# Altium footprint library LYDZ.PcbLib: 231 footprints (part 10 of 15)
Each footprint in its own frame and in the unit in brackets; x right, y up, seen from the top. Pads: shape width x height; smd on the part's side, far side on the other; paste and mask are expansions set on the pad; w line width, h text height; cw(c..) or ccw(c..) is an arc to the next point about the centre after c.
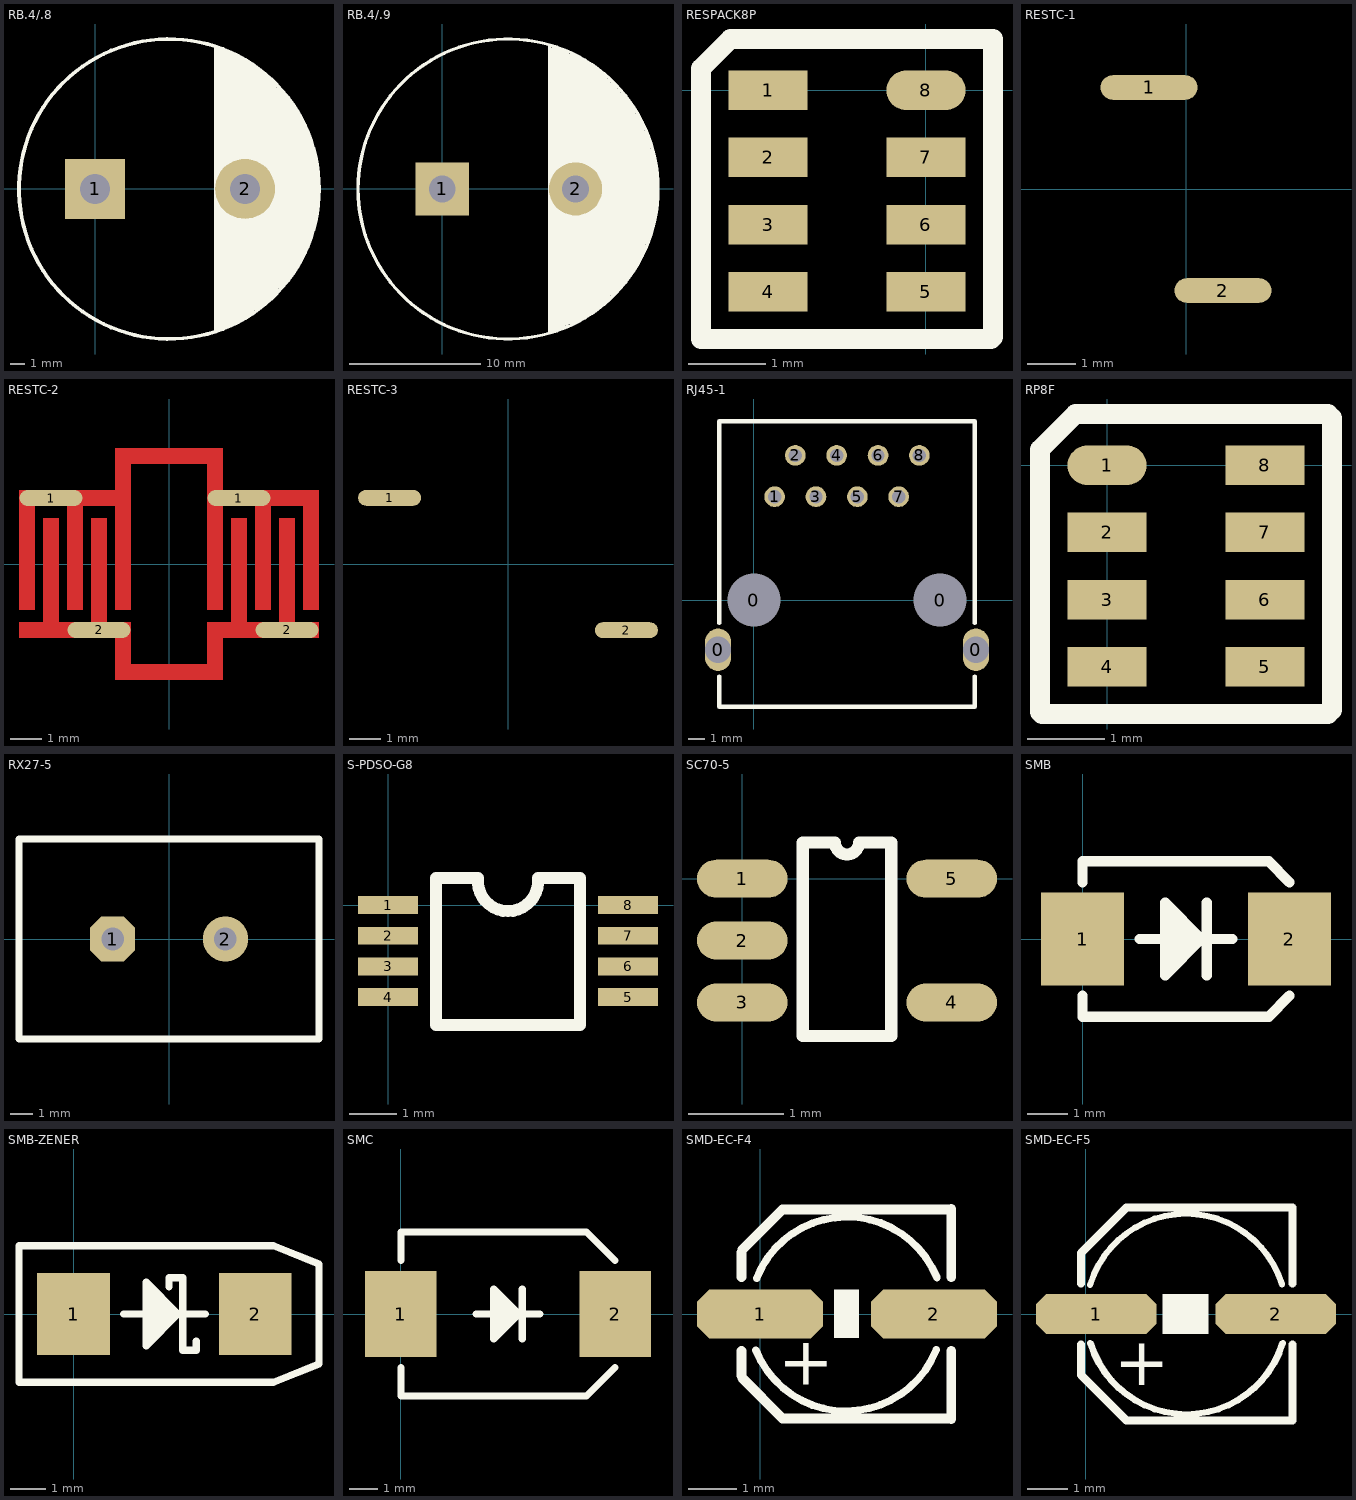
[diagram p9: the footprints below, top view; thin cyan lines are the x and y axes]

## RB.4/.8 [mil]
pads (2):
  rect 160x160 hole 80: 1(0,0)
  round 160 hole 80: 2(400,0)
Top Overlay:
  circle w10: c197.32,-0.1 r400
  rectangle: 341.53,355.1 358.53,369.1
  rectangle: 323.53,357.1 347.53,373.1
  rectangle: 366.53,348.1 380.53,360.1
  rectangle: 396.53,333.1 403.53,343.1
  rectangle: 416.53,325.1 424.53,329.1
  rectangle: 392.53,311.1 419.53,337.1
  rectangle: 367.53,323.1 399.53,350.1
  rectangle: 317,316.1 326.53,378.1
  rectangle: 424.53,318.1 431.53,325.1
  rectangle: 442.53,300.1 452.53,309.1
  rectangle: 420.53,295.1 444.53,320.1
  rectangle: 471.53,266.1 484.53,284.1
  rectangle: 460.53,268.1 472.53,293.1
  rectangle: 420.53,260.1 463.53,302.1
  rectangle: 486.53,253.1 499.53,266.1
  rectangle: 503.53,236.1 512.53,247.1
  rectangle: 529.53,209.1 534.53,216.1
  rectangle: 527.53,208.1 529.53,216.1
  rectangle: 519.53,208.1 529.53,227.1
  rectangle: 501.53,207.1 522.53,239.1
  rectangle: 486.53,206.1 506.53,254.1
  rectangle: 547.53,163.1 557.53,180.1
  rectangle: 537.53,165.1 550.53,198.1
  rectangle: 558.53,125.1 574.53,147.1
  rectangle: 537.53,118.1 564.53,167.1
  rectangle: 572.53,99.1 580.53,118.1
  rectangle: 581.53,60.1 594.53,72.1
  rectangle: 572.53,58.1 586.53,103.1
  rectangle: 574.53,-92.9 584.53,-78.9
  rectangle: 574.53,-118.9 581.53,-85.9
  rectangle: 574.53,-85.9 591.53,-41.9
  rectangle: 534.53,-199.9 546.53,-185.9
  rectangle: 534.53,-185.9 553.53,-173.9
  rectangle: 534.53,-173.9 561.53,-154.9
  rectangle: 530.53,-156.9 571.53,-122.9
  rectangle: 502.53,-248.9 513.53,-236.9
  rectangle: 502.53,-236.9 522.53,-223.9
  rectangle: 492.53,-225.9 529.53,-216.9
  rectangle: 496.53,-216.9 535.53,-197.9
  rectangle: 496.53,-260.9 505.53,-197.9
  rectangle: 477.53,-265.9 496.53,-197.9
  rectangle: 465.53,-292.9 474.53,-275.9
  rectangle: 450.53,-296.9 465.53,-266.9
  rectangle: 429.53,-307.9 460.53,-281.9
  rectangle: 418.53,-285.9 482.53,-263.9
  rectangle: 431.53,-314.9 447.53,-258.9
  rectangle: 418.53,-322.9 437.53,-263.9
  rectangle: 375.53,-352.9 386.53,-340.9
  rectangle: 375.53,-348.9 398.53,-340.9
  rectangle: 375.53,-340.9 411.53,-332.9
  rectangle: 375.53,-332.9 424.53,-319.9
  rectangle: 327.53,-374.9 341.53,-355.9
  rectangle: 327.53,-368.9 361.53,-355.9
  rectangle: 317,-384.9 324.53,-374.9
  rectangle: 317,-374.9 334.53,-354.9
  rectangle: 559.53,-49.9 594.53,60.1
  rectangle: 499.53,-129.9 574.53,125.1
  rectangle: 459.53,-204.9 539.53,210.1
  rectangle: 399.53,-274.9 489.53,270.1
  rectangle: 317,-324.9 424.53,325.1
  rectangle: 317,-359.9 379.53,-309.9
  rectangle: 317,321.1 374.53,361.1

## RB.4/.9 [mil]
pads (2):
  rect 160x160 hole 80: 1(0,0)
  round 160 hole 80: 2(400,0)
Top Overlay:
  circle w10: c197.32,-0.1 r450
  rectangle: 420,-339.9 495,-305
  rectangle: 425,-334.9 500,-300
  rectangle: 430,-324.9 505,-290
  rectangle: 440,-319.9 515,-285
  rectangle: 450,-314.9 525,-280
  rectangle: 455,-304.9 530,-270
  rectangle: 465,-294.9 540,-260
  rectangle: 465,-285 545,-255
  rectangle: 485,-269.9 560,-235
  rectangle: 490,-259.9 565,-225
  rectangle: 475,-279.9 550,-245
  rectangle: 430,-309.9 505,-275
  rectangle: 320,-404.9 395,-370
  rectangle: 330,-399.9 405,-365
  rectangle: 340,-395 415,-360.1
  rectangle: 350,-389.9 425,-355
  rectangle: 355,-384.9 430,-350
  rectangle: 320,-420 370,-385
  rectangle: 380,-369.9 455,-335
  rectangle: 390,-364.9 465,-330
  rectangle: 395,-360 470,-330
  rectangle: 405,-354.9 480,-320
  rectangle: 410,-345 485,-305
  rectangle: 370,-380 445,-340
  rectangle: 500,-249.9 575,-215
  rectangle: 505,-239.9 580,-205
  rectangle: 515,-219.9 590,-185
  rectangle: 515,-229.9 585,-195
  rectangle: 525,-209.9 600,-175
  rectangle: 546.53,-194.9 605,-160
  rectangle: 551.53,-179.9 610,-145
  rectangle: 561.53,-164.9 620,-130
  rectangle: 571.53,-139.9 630,-105
  rectangle: 576.53,-109.9 635,-75
  rectangle: 581.53,-79.9 640,-45
  rectangle: 541.53,175.1 600,210
  rectangle: 536.53,185.1 590,220
  rectangle: 546.53,160.1 605,195
  rectangle: 556.53,140.1 615,175
  rectangle: 561.53,125.1 620,160
  rectangle: 566.53,110.1 625,145
  rectangle: 576.53,85.1 635,120
  rectangle: 420.53,260.1 465,365
  rectangle: 317,321.1 374.53,415
  rectangle: 341.53,355.1 358.53,420
  rectangle: 323.53,357.1 347.53,425
  rectangle: 366.53,348.1 380.53,410
  rectangle: 396.53,333.1 403.53,400
  rectangle: 416.53,325.1 430,385
  rectangle: 392.53,311.1 419.53,395
  rectangle: 367.53,323.1 399.53,405
  rectangle: 317,316.1 326.53,430
  rectangle: 442.53,300.1 455,370
  rectangle: 420.53,295.1 444.53,380
  rectangle: 471.53,266.1 485,350
  rectangle: 460.53,268.1 475,355
  rectangle: 503.53,236.1 515,320
  rectangle: 520,208.1 535,300
  rectangle: 501.53,207.1 525,315
  rectangle: 486.53,206.1 505,330
  rectangle: 547.53,163.1 560,270
  rectangle: 537.53,165.1 550,285
  rectangle: 558.53,125.1 575,245
  rectangle: 537.53,118.1 570,260
  rectangle: 572.53,99.1 580,235
  rectangle: 581.53,60.1 640,95
  rectangle: 572.53,58.1 585,225
  rectangle: 574.53,-92.9 584.53,-78.9
  rectangle: 574.53,-118.9 581.53,-85.9
  rectangle: 574.53,-85.9 591.53,-41.9
  rectangle: 534.53,-199.9 546.53,-185.9
  rectangle: 534.53,-185.9 553.53,-173.9
  rectangle: 534.53,-173.9 561.53,-154.9
  rectangle: 530.53,-156.9 571.53,-122.9
  rectangle: 502.53,-248.9 513.53,-236.9
  rectangle: 502.53,-236.9 522.53,-223.9
  rectangle: 492.53,-225.9 529.53,-216.9
  rectangle: 496.53,-216.9 535.53,-197.9
  rectangle: 496.53,-260.9 505.53,-197.9
  rectangle: 477.53,-265.9 496.53,-197.9
  rectangle: 465.53,-292.9 474.53,-275.9
  rectangle: 450.53,-296.9 465.53,-266.9
  rectangle: 429.53,-307.9 460.53,-281.9
  rectangle: 418.53,-285.9 482.53,-263.9
  rectangle: 431.53,-314.9 447.53,-258.9
  rectangle: 418.53,-322.9 437.53,-263.9
  rectangle: 375.53,-352.9 386.53,-340.9
  rectangle: 375.53,-348.9 398.53,-340.9
  rectangle: 375.53,-340.9 411.53,-332.9
  rectangle: 375.53,-332.9 424.53,-319.9
  rectangle: 327.53,-430 341.53,-355.9
  rectangle: 327.53,-425 355,-355.9
  rectangle: 317,-430 324.53,-374.9
  rectangle: 317,-430 334.53,-354.9
  rectangle: 559.53,-49.9 645,60.1
  rectangle: 499.53,-129.9 574.53,125.1
  rectangle: 459.53,-204.9 540,290
  rectangle: 399.53,-274.9 495,340
  rectangle: 317,-324.9 424.53,325.1
  rectangle: 317,-410 379.53,-309.9

## RESPACK8P [mil]
pads (8):
  rect 40x20 smd: 1(-80,0) 2(-80,-34) 3(-80,-68) 4(-80,-102) 5(0,-102) 6(0,-68) 7(0,-34)
  oval 40x20 smd: 8(0,0)
Top Overlay:
  lines w10: -114,-125.98 -114,11 -99,26 3,26 34,26 34,-125 33,-126 -112,-126 -114,-124

## RESTC-1 [mil]
pads (2):
  oval 78.74x20 smd: 1(-30,82.5) 2(30,-82.5)

## RESTC-2 [mil]
pads (4):
  oval 78.74x20 smd: 1(-147.5,82.5) 1(87.5,82.5) 2(-87.5,-82.5) 2(147.5,-82.5)
Top Layer:
  rectangle: -67.5,-57.5 -47.5,145
  rectangle: -65,-145 65,-125
  rectangle: 47.5,-145 67.5,-75
  rectangle: -67.5,-145 -47.5,-75
  rectangle: 47.5,-92.5 187.5,-72.5
  rectangle: 52.5,72.5 187.5,92.5
  rectangle: 167.5,-57.5 187.5,92.5
  rectangle: 137.5,-92.5 157.5,57.5
  rectangle: 107.5,-57.5 127.5,92.5
  rectangle: 77.5,-92.5 97.5,57.5
  rectangle: -65,125 65,145
  rectangle: 47.5,-57.5 67.5,145
  rectangle: -182.5,72.5 -47.5,92.5
  rectangle: -97.5,-92.5 -77.5,57.5
  rectangle: -127.5,-57.5 -107.5,92.5
  rectangle: -157.5,-92.5 -137.5,57.5
  rectangle: -187.5,-92.5 -47.5,-72.5
  rectangle: -187.5,-57.5 -167.5,92.5
Top Solder:
  rectangle: 47.5,-92.5 187.5,-72.5
  rectangle: 52.5,72.5 187.5,92.5
  rectangle: 167.5,-57.5 187.5,92.5
  rectangle: 137.5,-92.5 157.5,57.5
  rectangle: 107.5,-57.5 127.5,92.5
  rectangle: 77.5,-92.5 97.5,57.5
  rectangle: 47.5,-57.5 67.5,92.5
  rectangle: -182.5,72.5 -47.5,92.5
  rectangle: -67.5,-57.5 -47.5,92.5
  rectangle: -97.5,-92.5 -77.5,57.5
  rectangle: -127.5,-57.5 -107.5,92.5
  rectangle: -157.5,-92.5 -137.5,57.5
  rectangle: -187.5,-92.5 -47.5,-72.5
  rectangle: -187.5,-57.5 -167.5,92.5

## RESTC-3 [mil]
pads (2):
  oval 78.74x20 smd: 1(-147.5,82.5) 2(147.5,-82.5)

## RJ45-1 [mm]
height 2.8
pads (12):
  oval 1.6x2.6 hole 1.6: 0(-2.2,-3.05) 0(13.63,-3.05)
  round 3.2 hole 3.25: 0(0,0) 0(11.43,0)
  round 1.27 hole 0.813: 1(1.27,6.35) 2(2.54,8.89) 3(3.81,6.35) 4(5.08,8.89) 5(6.35,6.35) 6(7.62,8.89) 7(8.89,6.35) 8(10.16,8.89)
Top Overlay:
  lines w0.254: -2.135,-4.699 -2.135,-6.55 5.715,-6.55 13.565,-6.55 13.565,-4.699 ; -2.135,-1.397 -2.135,10.985 5.715,10.985 13.565,10.985 13.565,-1.397

## RP8F [mil]
pads (8):
  oval 40x20 smd: 1(0,0)
  rect 40x20 smd: 2(0,-34) 3(0,-68) 4(0,-102) 5(80,-102) 6(80,-68) 7(80,-34) 8(80,0)
Top Overlay:
  lines w10: -34,-125 -34,8 -16,26 -3,26 112,26 114,24 114,-124 112,-126 -33,-126 -34,-125

## RX27-5 [mil]
pads (2):
  oct 80x80 hole 40: 1(-100,0)
  round 80 hole 40: 2(100,0)
Top Overlay:
  lines w12: -265.75,-177.17 -265.75,177.17 265.75,177.17 265.75,-177.17 -265.75,-177.17

## S-PDSO-G8 [mm]
height 2.27
pads (8):
  rect 1.27x0.38 smd: 1(0,0) 2(0,-0.65) 3(0,-1.3) 4(0,-1.95) 5(5.08,-1.95) 6(5.08,-1.3) 7(5.08,-0.65) 8(5.08,0)
Top Overlay:
  lines w0.254: 1.016,-2.54 1.016,0.575 1.905,0.575 ccw(c2.54,0.508) 3.175,0.575 4.064,0.575 4.064,-2.54 1.016,-2.54

## SC70-5 [mm]
pads (5):
  oval 0.95x0.4 smd: 1(0,0) 2(0,-0.65) 3(0,-1.3) 4(2.2,-1.3) 5(2.2,0)
Top Overlay:
  lines w0.127: 0.635,-1.651 1.565,-1.651 1.565,0.381 1.227,0.381 cw(c1.1,0.381) 0.973,0.381 0.635,0.381 0.635,-1.651

## SMB [mil]
pads (2):
  rect 80x90 smd: 1(0,0) 2(200,0)
Top Overlay:
  rectangle: 95,-15 105,15
  rectangle: 85,-25 95,25
  lines w10: 0,-55 0,-75 180,-75 200,-55 ; 0,55 0,75 180,75 200,55 ; 55,0 145,0 ; 120,-35 120,35 ; 80,-35 115,0 80,35 80,-35

## SMB-ZENER [mil]
pads (2):
  rect 80x90 smd: 1(0,0) 2(200,0)
Top Overlay:
  rectangle: 100,-10 110,10
  rectangle: 90,-20 100,20
  rectangle: 80,-30 90,30
  lines w8: 55,0 145,0 ; 105,30 105,40 120,40 120,-40 135,-40 135,-30 ; 270,-55 220,-75 -60,-75 -60,75 220,75 270,55 270,-54.58 ; 80,-35 115,0 80,35 80,-35

## SMC [mil]
pads (2):
  rect 100x120 smd: 1(0,0) 2(300,0)
Top Overlay:
  rectangle: 135,-25 145,25
  rectangle: 145,-15 155,15
  lines w10: 0,-75 0,-115 260,-115 300,-75 ; 0,75 0,115 260,115 300,75 ; 105,0 195,0 ; 170,-35 170,35 ; 130,-35 130,35 165,0 130,-35

## SMD-EC-F4 [mm]
pads (2):
  oct 2.6x1 smd: 1(0,0) 2(3.579,0)
Top Overlay:
  rectangle: 1.524,-0.499 2.032,0.5
  lines w0.152: -0.087,-0.746 ccw(c1.769,0) 3.627,-0.74 ; -0.071,0.74 cw(c1.787,0) 3.643,0.746
  lines w0.203: -0.381,-1.27 -0.381,-0.762 ; -0.381,0.762 -0.381,1.27 ; -0.364,-1.324 0.461,-2.15 3.937,-2.15 ; -0.364,1.325 0.461,2.151 3.936,2.151 ; 3.937,-2.159 3.937,-0.762 ; 3.937,0.762 3.937,2.159
  text "+" at 0.37,-1.46 h1

## SMD-EC-F5 [mm]
pads (2):
  oct 3x1 smd: 1(0.254,0) 2(4.731,0)
Top Overlay:
  rectangle: 1.905,-0.5 3.048,0.5
  lines w0.152: 0.104,-0.73 ccw(c2.495,0) 4.883,-0.74 ; 0.104,0.73 cw(c2.495,0) 4.883,0.74 ; 0.127,-0.74 ccw(c2.515,0) 4.906,-0.73
  lines w0.203: -0.127,-0.762 -0.127,-1.524 1.005,-2.656 5.144,-2.656 ; -0.127,0.762 -0.127,1.524 1.005,2.656 5.144,2.656 ; 5.146,-2.654 5.146,-0.762 ; 5.146,0.762 5.146,2.654
  text "+" at 0.699,-1.777 h1.2